# EAGLE library part LT3741 (library everykey)
Linear Technology CC CV buck converter up to 20A.
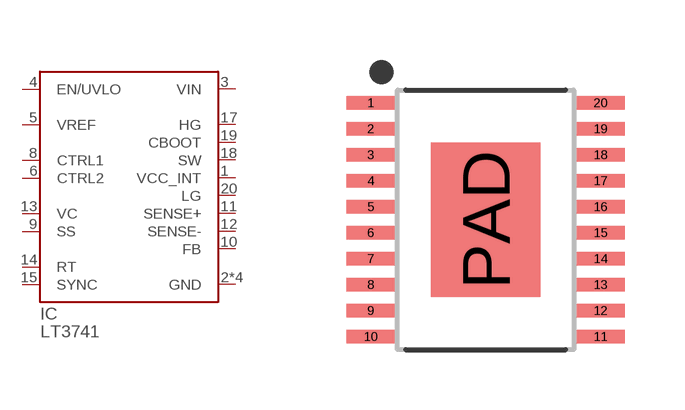
[diagram p73: symbol with the pads of TSSOP20-0.65-EP; footprint TSSOP20-0.65-EP]

Designator prefix IC

## LT3741-TSSOP  [TSSOP20-0.65-EP]
1  VCC_INT  in
2  GND  pwr
3  VIN  pwr
4  EN/UVLO  in
5  VREF  in
6  CTRL2  in
7  GND  pwr
8  CTRL1  in
9  SS  in
10  FB  in
11  SENSE+  in
12  SENSE-  in
13  VC  in
14  RT  in
15  SYNC  in
16  GND  pwr
17  HG  out
18  SW  in
19  CBOOT  in
20  LG  out
PAD  GND  pwr

## Footprint TSSOP20-0.65-EP (pad centres in mm)
TSSOP package, 20 pins + exposed pad. 0.65mm pitch, body width nom. 4.4mm. Pads optimized to work with up to 12mil rules.
smd 1.2 x 0.33: 1 -2.875,2.925; 2 -2.875,2.275; 3 -2.875,1.625; 4 -2.875,0.975; 5 -2.875,0.325; 6 -2.875,-0.325; 7 -2.875,-0.975; 8 -2.875,-1.625; 9 -2.875,-2.275; 10 -2.875,-2.925; 11 2.875,-2.925; 12 2.875,-2.275; 13 2.875,-1.625; 14 2.875,-0.975; 15 2.875,-0.325; 16 2.875,0.325; 17 2.875,0.975; 18 2.875,1.625; 19 2.875,2.275; 20 2.875,2.925
smd 2.74 x 3.86: PAD 0,0